# Altium schematic symbol library Custom1.SchLib: 476 symbols (part 7 of 16)
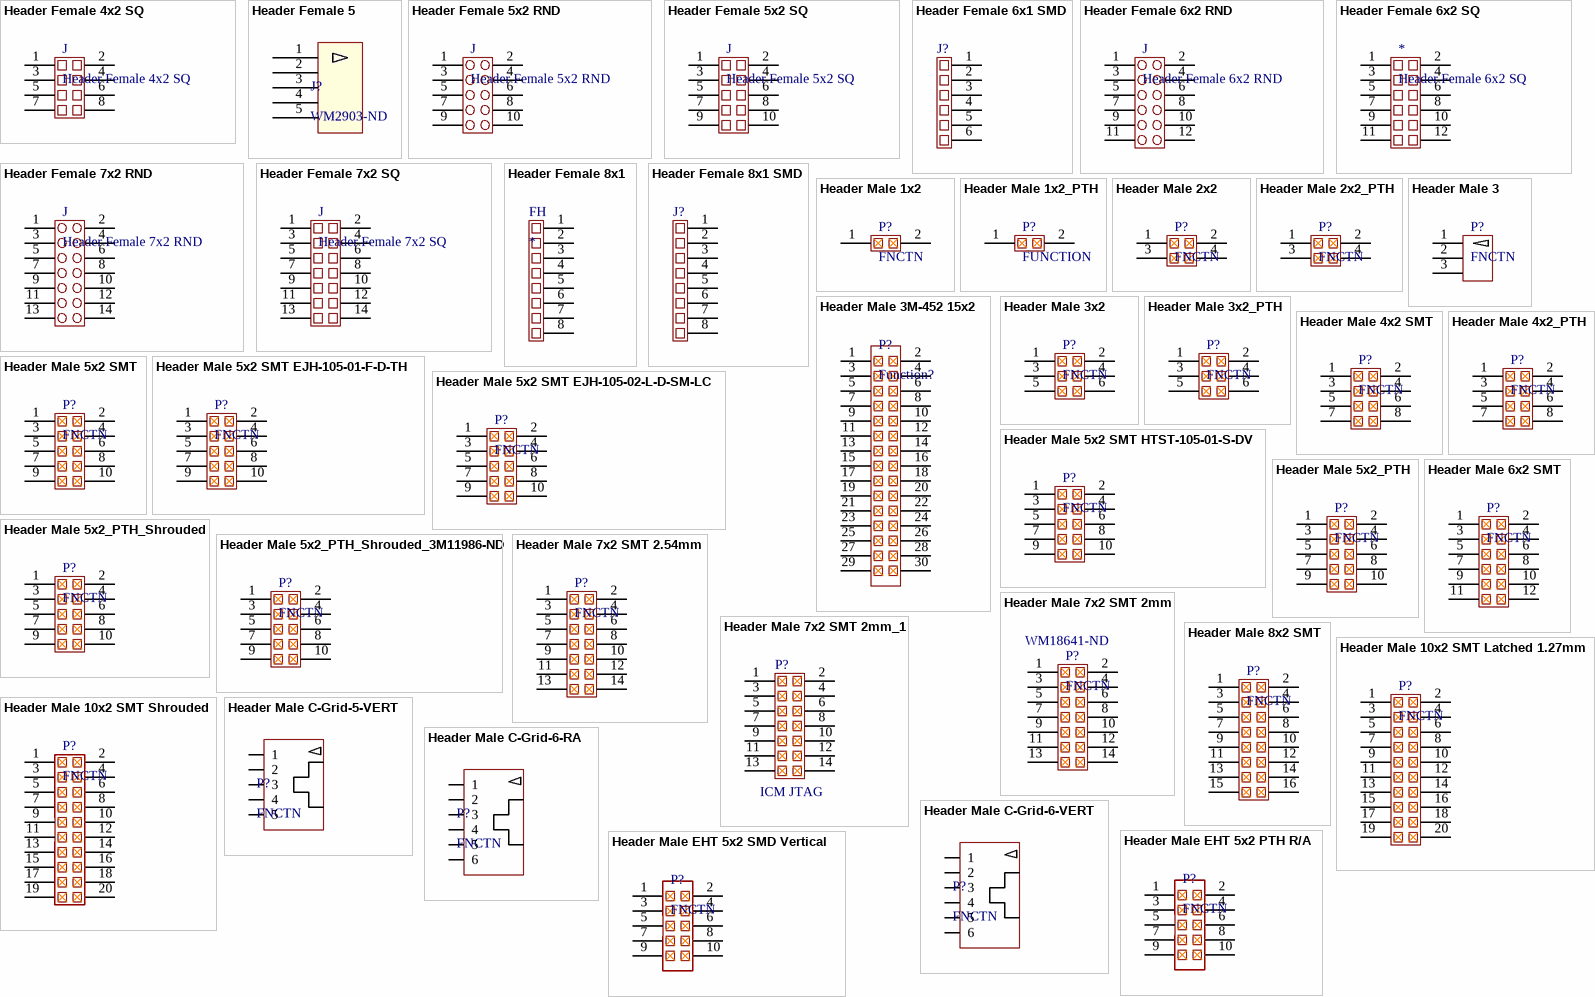
[diagram p31: symbols Header Female 4x2 SQ to Header Male EHT 5x2 SMD Vertical]

## Header Male 6x2 SMT
designator P?, comment FNCTN
Header Male 6x2 SMT; Manufacturer: FCI; Manufacturer Part Number: 95278-101A12LF; Connector Type: Header, Unshrouded; Number of Positions: 12; Number of Positions Loaded: All; Pitch: 0.100" (2.54mm); Supplier 1: Digi-Key; RoHS: RoHS Compliant; Category: Connectors, Interconnects; Stock 1: 1303; Pricing 1: 1=1.19, 10=1.048, 25=0.9864, 50=0.9454, 100=0.9044 (USD); Packaging: Cut Tape (CT); Contact Type: Male Pin; Number of Rows: 2; Row Spacing: 0.100" (2.54mm); Contact Mating Length: 0.232" (5.90mm); Mounting Type: Surface Mount; Termination: Solder; Fastening Type: -; Features: -; Contact Finish: Gold, GXT™; Contact Finish Thickness: 30µin (0.76µm); Color: Black; ComponentLink1URL: http://portal.fciconnect.com/Comergent//fci/drawing/95278.pdf; ComponentLink1Description: http://portal.fciconnect.com/Comergent//fci/drawing/95278.pdf; Supplier Part Number 1: 609-3484-1-ND
footprint Header Male 2x6 SMT
pins: 1, 2, 3, 4, 5, 6, 7, 8, 9, 10, 11, 12

## Header Male 7x2 SMT 2.54mm
designator P?, comment FNCTN
CONN HEADER SMD 14POS 2.54MM; Manufacturer: FCI; Manufacturer Part Number: 95278-101A14LF; Connector Type: Header, Unshrouded; Number of Positions: 14; Number of Positions Loaded: All; Pitch: 0.100" (2.54mm); Supplier 1: Digi-Key; RoHS: RoHS Compliant; Category: Connectors, Interconnects; Stock 1: 2118; Pricing 1: 1=1.36, 10=1.199, 25=1.128, 50=1.081, 100=1.0341 (USD); Packaging: Cut Tape (CT); Contact Type: Male Pin; Number of Rows: 2; Row Spacing: 0.100" (2.54mm); Contact Mating Length: 0.232" (5.90mm); Mounting Type: Surface Mount; Termination: Solder; Fastening Type: -; Features: -; Contact Finish: Gold, GXT™; Contact Finish Thickness: 30µin (0.76µm); Color: Black; ComponentLink1URL: http://portal.fciconnect.com/Comergent//fci/drawing/95278.pdf; ComponentLink1Description: http://portal.fciconnect.com/Comergent//fci/drawing/95278.pdf; Supplier Part Number 1: 609-3485-1-ND
footprint 95278-101A14LF
pins: 1, 2, 3, 4, 5, 6, 7, 8, 9, 10, 11, 12, 13, 14

## Header Male 7x2 SMT 2mm
designator P?, comment FNCTN  Supplier Part Number 1: WM18641-ND
CONN HEADER SMD 14POS 2MM; Manufacturer: Molex; Manufacturer Part Number: 87832-1420; Number of Positions: 14; Gender: Male; Current Rating: 2A; Insulation Resistance: 1GR; Voltage Rating: 125V; Shrouded: Yes (With); Glow Wire Compliant: Non-compliant; Supplier 1: Digi-Key; Stock 1: 55862; Pricing 1: 1 = 1.83000, 10 = 1.66000, 100 = 1.42280, 500 = 1.18562, 3200 = 0.94850, 6400 = 0.90108 (USD); RoHS: Yes; Mount: Surface Mount; Color: Black; Housing Color: Black; Housing Material: Thermoplastic; Contact Plating: Gold; Contact Material: Brass; Min Operating Temperature: -55°C; Max Operating Temperature: 105°C; Number of Rows: 2; Packaging: Rail/Tube; Termination: SMD/SMT; Number of Contacts: 14; Orientation: Vertical; Package Quantity: 3200; Number of Circuits: 14; Voltage Rating (DC): 125V; Pitch: 2mm; Radiation Hardening: No; REACH SVHC: No SVHC; Lead Free: Lead Free; Flammability Rating: UL94 V-0; ComponentLink1Description: Drawing; ComponentLink1URL: https://www.molex.com/pdm_docs/sd/878322620_sd.pdf; ComponentLink2Description: Product Specification; ComponentLink2URL: https://www.molex.com/pdm_docs/ps/PS-87831-027.pdf; ComponentLink3Description: PKG Spec; ComponentLink3URL: https://media.digikey.com/pdf/Data%20Sheets/Molex%20PDFs/87832-300_Pkg_Spec.pdf
footprint Header Male 2x7 SMT 2mm (CONN HEADER SMD 14POS 2MM)
pins: 1, 2, 3, 4, 5, 6, 7, 8, 9, 10, 11, 12, 13, 14

## Header Male 7x2 SMT 2mm_1
designator P?, comment ICM JTAG
CONN HEADER SMD 14POS 2MM; Manufacturer: FCI; Manufacturer Part Number: 95278-101A14LF; Connector Type: Header, Unshrouded; Number of Positions: 14; Number of Positions Loaded: All; Pitch: 0.100" (2.54mm); Gender: Male; RoHS: RoHS Compliant; Category: Connectors, Interconnects; Packaging: Cut Tape (CT); Contact Type: Male Pin; Number of Rows: 2; Row Spacing: 0.100" (2.54mm); Contact Mating Length: 0.232" (5.90mm); Mounting Type: Surface Mount; Termination: Solder; Fastening Type: -; Features: -; Contact Finish: Gold, GXT™; Contact Finish Thickness: 30µin (0.76µm); Color: Black; ComponentLink1URL: http://portal.fciconnect.com/Comergent//fci/drawing/95278.pdf; ComponentLink1Description: http://portal.fciconnect.com/Comergent//fci/drawing/95278.pdf; Supplier 1: Digi-Key; Stock 1: 0; Mount: Surface Mount; Housing Color: Black; Housing Material: Nylon; Contact Plating: Gold; Contact Material: Bronze; Min Operating Temperature: -55°C; Max Operating Temperature: 105°C; Number of Contacts: 14; Orientation: Straight; Length: 16.65mm; Depth: 6.3mm; ComponentLink2URL: http://www.molex.com/webdocs/datasheets/pdf/en-us/0878321420_PCB_HEADERS.pdf?src-supplier=Avnet; ComponentLink2Description: http://www.molex.com/webdocs/datasheets/pdf/en-us/0878321420_PCB_HEADERS.pdf?src-supplier=Avnet; ComponentLink3URL: https://media.digikey.com/pdf/Data%20Sheets/Molex%20PDFs/87832-300_Pkg_Spec.pdf?src-supplier=Arrow; ComponentLink3Description: https://media.digikey.com/pdf/Data%20Sheets/Molex%20PDFs/87832-300_Pkg_Spec.pdf?src-supplier=Arrow; Supplier Part Number 1: WM18641-ND
footprint Header Male 2x7 SMT
footprint Header Male 2x7 SMT 2mm (CONN HEADER SMD 14POS 2MM)
footprint 95278-101A14LF (CONN HEADER SMD 14POS 2MM)
pins: 1, 2, 3, 4, 5, 6, 7, 8, 9, 10, 11, 12, 13, 14

## Header Male 8x2 SMT
designator P?, comment FNCTN
Header Male 8x2 SMT; Manufacturer: Amphenol FCI; Manufacturer Part Number: 95278-101A16LF; Number of Contacts: 16; Current Rating: 3A; Voltage Rating: 1.5kV; Insulation Resistance: 5GR; Connector Type: Male Pin; Pitch: 2.54mm; Row Spacing: 0.1inch; Supplier 1: Digi-Key; Stock 1: 13993; Pricing 1: 1=1.37000, 10=1.20100, 100=1.03580 (USD); RoHS: Yes; Mount: Surface Mount; Contact Plating: Gold,GXT; Color: Black; Contact Material: Bronze; Housing Color: Black; Material: Thermoplastic; Housing Material: Thermoplastic; Min Operating Temperature: -65°C; Max Operating Temperature: 125°C; Number of Rows: 2; Termination: Solder; Package Quantity: 300; Packaging: Tape and Reel; Contact Gender: Male; Number of Positions: 16; Max Voltage Rating (AC): 1.5kV; Orientation: Straight; Gender: Male; Length: 20.32mm; Contact Mating Length: 0.232inch; Depth: 4.83mm; Radiation Hardening: No; REACH SVHC: No SVHC; Lead Free: Lead Free; Flammability Rating: UL94 V-0; ComponentLink1URL: https://datasheet.ciiva.com/14804/113095278-14804547.pdf?src-supplier=Arrow; ComponentLink1Description: https://datasheet.ciiva.com/14804/113095278-14804547.pdf?src-supplier=Arrow; ComponentLink2URL: https://datasheet.ciiva.com/731/95278-731185.pdf?src-supplier=Digi-Key; ComponentLink2Description: https://datasheet.ciiva.com/731/95278-731185.pdf?src-supplier=Digi-Key; ComponentLink3URL: https://datasheet.ciiva.com/738/95278-738548.pdf?src-supplier=Digi-Key; ComponentLink3Description: https://datasheet.ciiva.com/738/95278-738548.pdf?src-supplier=Digi-Key; ComponentLink4URL: https://datasheet.ciiva.com/10135/95278-10135641.pdf?src-supplier=Avnet; ComponentLink4Description: https://datasheet.ciiva.com/10135/95278-10135641.pdf?src-supplier=Avnet; ComponentLink5URL: https://datasheet.ciiva.com/46395/95278-46395817.pdf?src-supplier=Element14; ComponentLink5Description: https://datasheet.ciiva.com/46395/95278-46395817.pdf?src-supplier=Element14; ComponentLink6URL: https://datasheet.ciiva.com/16731/95278-16731066.pdf?src-supplier=Avnet+Europe; ComponentLink6Description: https://datasheet.ciiva.com/16731/95278-16731066.pdf?src-supplier=Avnet+Europe; ComponentLink7URL: https://datasheet.ciiva.com/46395/52707-46395818.pdf?src-supplier=Element14; ComponentLink7Description: https://datasheet.ciiva.com/46395/52707-46395818.pdf?src-supplier=Element14; ComponentLink8URL: https://datasheet.ciiva.com/720/95278-720175.pdf?src-supplier=Digi-Key; ComponentLink8Description: https://datasheet.ciiva.com/720/95278-720175.pdf?src-supplier=Digi-Key; Supplier Part Number 1: 609-3486-1-ND
footprint Header Male 2x8 SMT
pins: 1, 2, 3, 4, 5, 6, 7, 8, 9, 10, 11, 12, 13, 14, 15, 16

## Header Male 10x2 SMT Latched 1.27mm
designator P?, comment FNCTN
CONN HEADER SMD 20POS 1.27MM; Manufacturer: FCI; Manufacturer Part Number: 95278-101A14LF; Connector Type: Header, Unshrouded; Number of Positions: 14; Number of Positions Loaded: All; Pitch: 0.100" (2.54mm); Current Rating: 2A; Max Current Rating: 1.75A; Number of Contacts: 20; Gender: Male; RoHS: RoHS Compliant; Category: Connectors, Interconnects; Packaging: Cut Tape (CT); Contact Type: Male Pin; Number of Rows: 2; Row Spacing: 0.100" (2.54mm); Contact Mating Length: 0.232" (5.90mm); Mounting Type: Surface Mount; Termination: Solder; Fastening Type: -; Features: -; Contact Finish: Gold, GXT™; Contact Finish Thickness: 30µin (0.76µm); Color: Black; Supplier 1: Digi-Key; Stock 1: 4285; Pricing 1: 1 = 2.62000, 10 = 2.51300, 100 = 2.09440 (USD); Mount: Surface Mount; Contact Plating: Gold; Contact Material: Brass; Housing Color: Black; Housing Material: Polyester; Min Operating Temperature: -55°C; Max Operating Temperature: 105°C; Package Quantity: 200; Contact Gender: Male; Orientation: Straight; Length: 32.72mm; Depth: 8.59mm; REACH SVHC: Unknown; ComponentLink1URL: http://multimedia.3m.com/mws/media/485877O/3m-four-wall-header-d2500-series-ts-2244.pdf?src-supplier=Digi-Key; ComponentLink1Description: http://multimedia.3m.com/mws/media/485877O/3m-four-wall-header-d2500-series-ts-2244.pdf?src-supplier=Digi-Key; ComponentLink3URL: http://www.farnell.com/datasheets/1917897.pdf?src-supplier=Element14; ComponentLink3Description: http://www.farnell.com/datasheets/1917897.pdf?src-supplier=Element14; ComponentLink5URL: http://multimedia.3m.com/mws/media/555044O/3m-interconnect-products-shortform-catalog.pdf?src-supplier=Digi-Key; ComponentLink5Description: http://multimedia.3m.com/mws/media/555044O/3m-interconnect-products-shortform-catalog.pdf?src-supplier=Digi-Key; Supplier Part Number 1: MSH20ECT-ND
pins: 1, 2, 3, 4, 5, 6, 7, 8, 9, 10, 11, 12, 13, 14, 15, 16, 17, 18, 19, 20

## Header Male 10x2 SMT Shrouded
designator P?, comment FNCTN
Header Male 10x2 SMT Shrouded; Manufacturer: 3M; Manufacturer Part Number: D2520-6V0C-AR-WE; Current Rating: 2A; Max Current Rating: 1.75A; Number of Positions: 20; Connector Type: Male Pin; Pitch: 2.54mm; Row Spacing: 0.1inch; ComponentLink1URL: http://multimedia.3m.com/mws/media/485877O/3m-four-wall-header-d2500-series-ts-2244.pdf?src-supplier=Digi-Key; ComponentLink1Description: http://multimedia.3m.com/mws/media/485877O/3m-four-wall-header-d2500-series-ts-2244.pdf?src-supplier=Digi-Key; ComponentLink2URL: https://www.alliedelec.com/m/d/094cdcc0671c5146fad8da47879033d8.pdf?src-supplier=Allied+Electronics; ComponentLink2Description: https://www.alliedelec.com/m/d/094cdcc0671c5146fad8da47879033d8.pdf?src-supplier=Allied+Electronics; ComponentLink3URL: http://www.farnell.com/datasheets/1917897.pdf?src-supplier=Element14; ComponentLink3Description: http://www.farnell.com/datasheets/1917897.pdf?src-supplier=Element14; ComponentLink4URL: http://multimedia.3m.com/mws/media/485877O/3mtm-four-wall-header-ts2244.pdf?src-supplier=Avnet+Europe; ComponentLink4Description: http://multimedia.3m.com/mws/media/485877O/3mtm-four-wall-header-ts2244.pdf?src-supplier=Avnet+Europe; ComponentLink5URL: http://multimedia.3m.com/mws/media/555044O/3m-interconnect-products-shortform-catalog.pdf?src-supplier=Digi-Key; ComponentLink5Description: http://multimedia.3m.com/mws/media/555044O/3m-interconnect-products-shortform-catalog.pdf?src-supplier=Digi-Key; Supplier 1: Digi-Key; Stock 1: 9607; Pricing 1: 1 = 2.62000, 10 = 2.51300, 100 = 2.09440 (USD); RoHS: Yes; Mount: Surface Mount; Color: Black; Contact Plating: Gold; Contact Material: Brass; Housing Color: Black; Housing Material: Polyester; Min Operating Temperature: -55°C; Max Operating Temperature: 105°C; Package Quantity: 200; Number of Rows: 2; Packaging: Tape and Reel; Contact Gender: Male; Termination: Solder; Number of Contacts: 20; Orientation: Straight; Gender: Male; Length: 32.72mm; Contact Mating Length: 0.243inch; Depth: 8.59mm; REACH SVHC: Unknown; ComponentLink6URL: https://datasheet.ciiva.com/729/ts2244-729185.pdf?src-supplier=Digi-Key; ComponentLink6Description: https://datasheet.ciiva.com/729/ts2244-729185.pdf?src-supplier=Digi-Key; ComponentLink7URL: https://datasheet.ciiva.com/17055/70237664-17055513.pdf?src-supplier=Allied+Electronics; ComponentLink7Description: https://datasheet.ciiva.com/17055/70237664-17055513.pdf?src-supplier=Allied+Electronics; ComponentLink8URL: https://datasheet.ciiva.com/46408/ts2244-46408474.pdf?src-supplier=Element14; ComponentLink8Description: https://datasheet.ciiva.com/46408/ts2244-46408474.pdf?src-supplier=Element14; ComponentLink9URL: https://datasheet.ciiva.com/16730/ts2244-16730875.pdf?src-supplier=Avnet+Europe; ComponentLink9Description: https://datasheet.ciiva.com/16730/ts2244-16730875.pdf?src-supplier=Avnet+Europe; ComponentLink10URL: https://datasheet.ciiva.com/738/2009+intercon+shortform+cat-738542.pdf?src-supplier=Digi-Key; ComponentLink10Description: https://datasheet.ciiva.com/738/2009+intercon+shortform+cat-738542.pdf?src-supplier=Digi-Key; ComponentLink11URL: https://datasheet.ciiva.com/729/ts2244-729215.pdf?src-supplier=Digi-Key; ComponentLink11Description: https://datasheet.ciiva.com/729/ts2244-729215.pdf?src-supplier=Digi-Key; Supplier Part Number 1: MSH20ECT-ND
footprint Header Male 2x10 SMT 2.54mm
pins: 1, 2, 3, 4, 5, 6, 7, 8, 9, 10, 11, 12, 13, 14, 15, 16, 17, 18, 19, 20

## Header Male C-Grid-5-VERT
designator P?, comment FNCTN
CONN HEADER 6POS .100 R/A 30AU; Manufacturer: Molex; Manufacturer Part Number: 70543-0004; Number of Positions: 5; Gender: Male; Contact Resistance: 30mR; Max Current Rating: 3A; Voltage Rating: 250V; Pitch: 2.54mm; Approvals: UL,CSA; Glow Wire Compliant: Non-compliant; ComponentLink1URL: http://www.molex.com/pdm_docs/sd/705430001_sd.pdf; ComponentLink1Description: http://www.molex.com/pdm_docs/sd/705430001_sd.pdf; Supplier 1: Digi-Key; Stock 1: 4848; Pricing 1: 1=1.14000, 10=1.00000, 100=0.86280, 500=0.70596, 1000=0.62752, 5000=0.54908, 10000=0.52163 (USD); RoHS: Yes; Mount: Through Hole; Color: Black; Contact Plating: Gold; Housing Color: Black; Housing Material: Polyester; Contact Material: Bronze,Brass,Copper Alloy; Material: Brass; Min Operating Temperature: -40°C; Max Operating Temperature: 105°C; Number of Rows: 1; Packaging: Rail/Tube; Termination: Solder; Number of Contacts: 5; Orientation: Vertical; Current Rating: 3A; Package Quantity: 1680; Max Voltage Rating (AC): 250V; Number of Circuits: 5; Voltage Rating (DC): 250V; Length: 15.25mm; Height: 11.81mm; Depth: 6.6mm; Radiation Hardening: No; REACH SVHC: Unknown; ELV: Compliant; Lead Free: Lead Free; Flammability Rating: UL94 V-0; ComponentLink2URL: https://datasheet.ciiva.com/30074/163370705430004-pcb-headers-30074442.pdf?src-supplier=Onlinecomponents.com; ComponentLink2Description: https://datasheet.ciiva.com/30074/163370705430004-pcb-headers-30074442.pdf?src-supplier=Onlinecomponents.com; ComponentLink3URL: https://datasheet.ciiva.com/11746/0900766b80d8d64b-11746254.pdf?src-supplier=RSComponents; ComponentLink3Description: https://datasheet.ciiva.com/11746/0900766b80d8d64b-11746254.pdf?src-supplier=RSComponents; ComponentLink4URL: https://datasheet.ciiva.com/19462/884686-19462288.pdf?src-supplier=Jameco; ComponentLink4Description: https://datasheet.ciiva.com/19462/884686-19462288.pdf?src-supplier=Jameco; ComponentLink5URL: https://datasheet.ciiva.com/5152/0705430004-pcb-headers-172633-5152497.pdf?src-supplier=Mouser; ComponentLink5Description: https://datasheet.ciiva.com/5152/0705430004-pcb-headers-172633-5152497.pdf?src-supplier=Mouser; ComponentLink6URL: https://datasheet.ciiva.com/10087/0705430004-pcb-headers-10087572.pdf?src-supplier=Avnet; ComponentLink6Description: https://datasheet.ciiva.com/10087/0705430004-pcb-headers-10087572.pdf?src-supplier=Avnet; ComponentLink7URL: https://datasheet.ciiva.com/16657/0705430004-pcb-headers-16657768.pdf?src-supplier=Avnet+Europe; ComponentLink7Description: https://datasheet.ciiva.com/16657/0705430004-pcb-headers-16657768.pdf?src-supplier=Avnet+Europe; ComponentLink8URL: https://datasheet.ciiva.com/7683/0705430004-pcb-headers-7683819.pdf?src-supplier=Element14; ComponentLink8Description: https://datasheet.ciiva.com/7683/0705430004-pcb-headers-7683819.pdf?src-supplier=Element14; Supplier Part Number 1: WM4803-ND
footprint Header Male 6 Vert
pins: 1, 2, 3, 4, 5

## Header Male C-Grid-6-RA
designator P?, comment FNCTN
CONN HEADER 6POS .100 R/A 30AU; Manufacturer: Molex, LLC; Manufacturer Part Number: 0705530110; Connector Type: Header, Shrouded; Number of Positions: 6; Number of Positions Loaded: All; Pitch: 0.100" (2.54mm); Supplier 1: Digi-Key; RoHS: RoHS Compliant; Category: Connectors, Interconnects; Stock 1: 1091; Pricing 1: 1=2.56, 10=2.324, 50=2.087, 100=1.9921, 250=1.80236, 500=1.66006, 1000=1.4229, 2500=1.32804, 5000=1.26164 (USD); Packaging: Tube; Contact Type: Male Pin; Number of Rows: 1; Row Spacing: -; Contact Mating Length: 0.240" (6.10mm); Mounting Type: Through Hole, Right Angle; Termination: Solder; Fastening Type: -; Features: -; Contact Finish: Gold; Contact Finish Thickness: 30µin (0.76µm); Color: Black; ComponentLink1URL: http://www.molex.com/pdm_docs/sd/705530106_sd.pdf; ComponentLink1Description: http://www.molex.com/pdm_docs/sd/705530106_sd.pdf; Supplier Part Number 1: WM4157-ND
footprint Header Male-6-RA
pins: 1, 2, 3, 4, 5, 6

## Header Male C-Grid-6-VERT
designator P?, comment FNCTN
CONN HEADER 6POS .100 R/A 30AU; Manufacturer: Molex, LLC; Manufacturer Part Number: 0705430005; Connector Type: Header, Shrouded; Number of Positions: 6; Number of Positions Loaded: All; Pitch: 0.100" (2.54mm); Supplier 1: Digi-Key; RoHS: RoHS Compliant; Category: Connectors, Interconnects; Stock 1: 14077; Pricing 1: 1=1.2, 10=1.058, 50=0.9542, 100=0.9128, 250=0.8298, 500=0.74682, 1000=0.66384, 2500=0.6016, 5000=0.58086 (USD); Packaging: Tube; Contact Type: Male Pin; Number of Rows: 1; Row Spacing: -; Contact Mating Length: 0.240" (6.10mm); Mounting Type: Through Hole; Termination: Solder; Fastening Type: -; Features: -; Contact Finish: Gold; Contact Finish Thickness: 15µin (0.38µm); Color: Black; ComponentLink1URL: http://www.molex.com/pdm_docs/sd/705430001_sd.pdf; ComponentLink1Description: http://www.molex.com/pdm_docs/sd/705430001_sd.pdf; Supplier Part Number 1: WM4804-ND
footprint Header Male 6 Vert
pins: 1, 2, 3, 4, 5, 6

## Header Male EHT 5x2 PTH R/A
designator P?, comment FNCTN
CONN HEADER R/A 10POS 2MM; Manufacturer: Samtec; Manufacturer Part Number: EHT-105-01-S-D-RA; Max Current Rating: 3A; Number of Positions: 10; Gender: Male; Connector Type: Male Pin; Row Spacing: 0.079inch; ComponentLink1URL: http://suddendocs.samtec.com/catalog_english/eht.pdf; ComponentLink1Description: Catalog Page; ComponentLink2URL: http://suddendocs.samtec.com/prints/eht-1xx-01-xx-d-xx-xx-x-xx-xx-mkt.pdf; ComponentLink2Description: Drawing; ComponentLink3URL: https://wwws.samtec.com/build-a-part/BuildPart.aspx?series=EHT&viewmodel=true; ComponentLink3Description: 3D Model Creator; ComponentLink7Description: Supplier Link; ComponentLink7URL: https://www.digikey.com/products/en?keywords=SAM8555-ND; Supplier 1: Digi-Key; Stock 1: 920; Pricing 1: 1 = 7.85000, 23 = 7.52087, 115 = 6.21304, 506 = 5.23200, 1012 = 4.57800 (USD); RoHS: Yes; Mount: Through Hole; Contact Plating: Gold; Contact Material: Bronze; Color: Black; Housing Color: Black; Housing Material: Polymer; Min Operating Temperature: -55°C; Max Operating Temperature: 125°C; Number of Rows: 2; Packaging: Rail/Tube; Current Rating: 3A; Fastening Type: Latch; Termination: Solder; Number of Contacts: 10; Orientation: Right Angle; Length: 23.79mm; Pitch: 2mm; Contact Mating Length: 0.12inch; Depth: 15.71mm; Radiation Hardening: No; REACH SVHC: No SVHC; Lead Free: Lead Free; ComponentLink5URL: https://datasheet.ciiva.com/25618/0900766b81151d40-25618321.pdf?src-supplier=RSComponents; ComponentLink5Description: Footprint info; Supplier Part Number 1: SAM8555-ND
footprint Header Male 2x5 EHT PTH R/A
pins: 1, 2, 3, 4, 5, 6, 7, 8, 9, 10

## Header Male EHT 5x2 SMD Vertical
designator P?, comment FNCTN
CONN HEADER SMD 10POS 2MM; Manufacturer: Samtec; Manufacturer Part Number: EHT-105-01-S-D-SM; Number of Positions: 10; Gender: Male; Connector Type: Male Pin; Row Spacing: 0.079inch; ComponentLink1URL: http://suddendocs.samtec.com/catalog_english/eht.pdf; ComponentLink1Description: Catalog Page; ComponentLink2URL: http://suddendocs.samtec.com/prints/eht-1xx-01-xx-d-xx-xx-x-xx-xx-mkt.pdf; ComponentLink2Description: Drawing; ComponentLink3URL: https://wwws.samtec.com/build-a-part/BuildPart.aspx?series=EHT&viewmodel=true; ComponentLink3Description: 3D Model Creator; ComponentLink4URL: http://suddendocs.samtec.com/prints/ehtd-sm.pdf; ComponentLink4Description: Footprint; Supplier 1: Digi-Key; Stock 1: 1945; Pricing 1: 1 = 8.88000, 23 = 8.49217, 115 = 7.14104, 506 = 5.98300, 1012 = 5.28820 (USD); RoHS: Yes; Mount: Surface Mount; Contact Plating: Gold; Contact Material: Bronze; Color: Black; Housing Color: Black; Housing Material: Polymer; Min Operating Temperature: -55°C; Max Operating Temperature: 125°C; Number of Rows: 2; Packaging: Tray; Package Quantity: 1; Fastening Type: Latch; Termination: Solder; Number of Contacts: 10; Orientation: Straight; Length: 23.79mm; Pitch: 2mm; Depth: 8.89mm; Radiation Hardening: No; REACH SVHC: No SVHC; ComponentLink6URL: https://datasheet.ciiva.com/740/eht-1xx-01-xx-d-xx-xx-x-xx-xx-mkt-740669.pdf?src-supplier=Digi-Key; ComponentLink6Description: https://datasheet.ciiva.com/740/eht-1xx-01-xx-d-xx-xx-x-xx-xx-mkt-740669.pdf?src-supplier=Digi-Key; Supplier Part Number 1: SAM10439-ND; ComponentLink7Description: Supplier Link; ComponentLink7URL: https://www.digikey.com/products/en?keywords=SAM10439-ND
footprint EHT5x2
pins: 1, 2, 3, 4, 5, 6, 7, 8, 9, 10

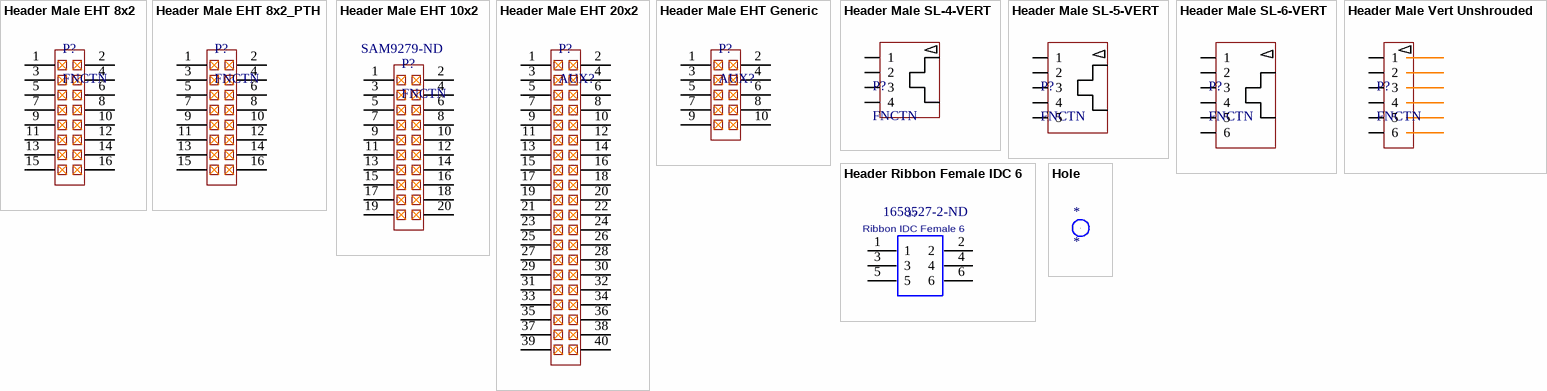
[diagram p15: symbols Header Male EHT 8x2 to Hole]

## Header Male EHT 8x2
designator P?, comment FNCTN
Header Male EHT 8x2; Manufacturer: Samtec Inc.; Manufacturer Part Number: EHT-108-01-S-D-SM; Connector Type: Header, Shrouded; Number of Positions: 16; Number of Positions Loaded: All; Pitch: 0.079" (2.00mm); Supplier 1: Digi-Key; RoHS: RoHS Compliant; Category: Connectors, Interconnects; Stock 1: 0; Pricing 1: 1=8.46 (USD); Packaging: Tube; Contact Type: Male Pin; Number of Rows: 2; Row Spacing: 0.079" (2.00mm); Contact Mating Length: 0.120" (3.05mm); Mounting Type: Surface Mount; Termination: Solder; Fastening Type: Latch Lock/Eject Hooks; Features: -; Contact Finish: Gold; Contact Finish Thickness: 30µin (0.76µm); Color: Black; ComponentLink1URL: http://suddendocs.samtec.com/prints/eht-1xx-01-xx-d-xx-xx-x-xx-xx-mkt.pdf; ComponentLink1Description: http://suddendocs.samtec.com/prints/eht-1xx-01-xx-d-xx-xx-x-xx-xx-mkt.pdf; Supplier Part Number 1: EHT-108-01-S-D-SM-ND
footprint EHT8x2
pins: 1, 2, 3, 4, 5, 6, 7, 8, 9, 10, 11, 12, 13, 14, 15, 16

## Header Male EHT 8x2_PTH
designator P?, comment FNCTN
Header Male EHT 8x2 PTH; Manufacturer: Samtec Inc.; Manufacturer Part Number: EHT-108-01-S-D; Connector Type: Header, Shrouded; Number of Positions: 16; Number of Positions Loaded: All; Pitch: 0.079" (2.00mm); Supplier 1: Digi-Key; RoHS: RoHS Compliant; Category: Connectors, Interconnects; Stock 1: 0; Pricing 1: 1=7.48 (USD); Packaging: Tube; Contact Type: Male Pin; Number of Rows: 2; Row Spacing: 0.079" (2.00mm); Contact Mating Length: 0.120" (3.05mm); Mounting Type: Through Hole; Termination: Solder; Fastening Type: Latch Lock/Eject Hooks; Features: -; Contact Finish: Gold; Contact Finish Thickness: 30µin (0.76µm); Color: Black; ComponentLink1URL: http://suddendocs.samtec.com/prints/eht-1xx-01-xx-d-xx-xx-x-xx-xx-mkt.pdf; ComponentLink1Description: http://suddendocs.samtec.com/prints/eht-1xx-01-xx-d-xx-xx-x-xx-xx-mkt.pdf; Supplier Part Number 1: EHT-108-01-S-D-ND
footprint EHT8x2 - PTH
pins: 1, 2, 3, 4, 5, 6, 7, 8, 9, 10, 11, 12, 13, 14, 15, 16

## Header Male EHT 10x2
designator P?, comment FNCTN  Supplier Part Number 1: SAM9279-ND
Header Male EHT 10x2; Manufacturer: Samtec Inc.; Manufacturer Part Number: EHT-110-01-S-D-SM-LC; Connector Type: Header, Shrouded; Number of Positions: 20; Number of Positions Loaded: All; Pitch: 0.079" (2.00mm); RoHS: RoHS Compliant; Category: Connectors, Interconnects; Packaging: Tray; Contact Type: Male Pin; Number of Rows: 2; Row Spacing: 0.079" (2.00mm); Contact Mating Length: -; Mounting Type: Surface Mount; Termination: Solder; Fastening Type: Latch Lock/Eject Hooks; Features: -; Contact Finish: Gold; Contact Finish Thickness: 30µin (0.76µm); Color: Black; ComponentLink1URL: http://suddendocs.samtec.com/prints/eht-1xx-01-xx-d-xx-xx-x-xx-xx-mkt.pdf; ComponentLink1Description: http://suddendocs.samtec.com/prints/eht-1xx-01-xx-d-xx-xx-x-xx-xx-mkt.pdf; Supplier 1: Digi-Key; Stock 1: 42; Pricing 1: 1 = 10.28000, 16 = 9.83375, 112 = 8.26946, 512 = 6.92850, 1008 = 6.12390 (USD); Contact Plating: Gold; Contact Material: Bronze; Housing Color: Black; Housing Material: Polymer; Min Operating Temperature: -55°C; Max Operating Temperature: 125°C; Number of Contacts: 20; Orientation: Straight; Gender: Male; Length: 33.79mm; Depth: 8.89mm; Radiation Hardening: No; REACH SVHC: No SVHC; ComponentLink2Description: Supplier Link; ComponentLink2URL: https://www.digikey.com/products/en?keywords=SAM9279-ND; ComponentLink3Description: Datasheet; ComponentLink3URL: http://suddendocs.samtec.com/catalog_english/eht.pdf; ComponentLink4Description: Drawing; ComponentLink4URL: http://suddendocs.samtec.com/prints/eht-1xx-01-xx-d-xx-xx-x-xx-xx-mkt.pdf
footprint EHT 10X2
pins: 1, 2, 3, 4, 5, 6, 7, 8, 9, 10, 11, 12, 13, 14, 15, 16, 17, 18, 19, 20

## Header Male EHT 20x2
designator P?, comment AUX?
Header Male EHT 20x2; Manufacturer: Samtec Inc.; Manufacturer Part Number: EHT-120-01-S-D-SM; Connector Type: Header, Shrouded; Number of Positions: 40; Number of Positions Loaded: All; Pitch: 0.079" (2.00mm); Supplier 1: Digi-Key; RoHS: RoHS Compliant; Category: Connectors, Interconnects; Stock 1: 0; Pricing 1: 1=12.18 (USD); Packaging: Tube; Contact Type: Male Pin; Number of Rows: 2; Row Spacing: 0.079" (2.00mm); Contact Mating Length: 0.120" (3.05mm); Mounting Type: Surface Mount; Termination: Solder; Fastening Type: Latch Lock/Eject Hooks; Features: -; Contact Finish: Gold; Contact Finish Thickness: 30µin (0.76µm); Color: Black; ComponentLink1URL: http://suddendocs.samtec.com/prints/eht-1xx-01-xx-d-xx-xx-x-xx-xx-mkt.pdf; ComponentLink1Description: http://suddendocs.samtec.com/prints/eht-1xx-01-xx-d-xx-xx-x-xx-xx-mkt.pdf; Supplier Part Number 1: EHT-120-01-S-D-SM-ND
pins: 1, 2, 3, 4, 5, 6, 7, 8, 9, 10, 11, 12, 13, 14, 15, 16, 17, 18, 19, 20, 21, 22, 23, 24, 25, 26, 27, 28, 29, 30, 31, 32, 33, 34, 35, 36, 37, 38, 39, 40

## Header Male EHT Generic
designator P?, comment AUX?
Header Male EHT Links; ComponentLink1URL: http://www.farnell.com/cad/559883.pdf; ComponentLink1Description: http://www.farnell.com/cad/559883.pdf; ComponentLink2URL: http://www.farnell.com/datasheets/1801434.pdf; ComponentLink2Description: http://www.farnell.com/datasheets/1801434.pdf; ComponentLink3URL: http://suddendocs.samtec.com/prints/eht-1xx-01-xx-d-xx-xx-x-xx-xx-mkt.pdf; ComponentLink3Description: http://suddendocs.samtec.com/prints/eht-1xx-01-xx-d-xx-xx-x-xx-xx-mkt.pdf; ComponentLink4URL: http://suddendocs.samtec.com/prints/ehtd-sm.pdf; ComponentLink4Description: Footprint
pins: 1, 2, 3, 4, 5, 6, 7, 8, 9, 10

## Header Male SL-4-VERT
designator P?, comment FNCTN
CONN HEADER 4POS .100 VERT 30AU; Manufacturer: Molex; Manufacturer Part Number: 70543-0108; Number of Positions: 4; Contact Resistance: 30mR; Gender: Male; Voltage Rating: 250V; Current Rating: 3A; Pitch: 2.54mm; Glow Wire Compliant: Non-compliant; ComponentLink1Description: Supplier Link; ComponentLink1URL: https://www.digikey.com/products/en?keywords=WM4124-ND; ComponentLink2Description: MFG Drawing; ComponentLink2URL: https://www.molex.com/pdm_docs/sd/705430106_sd.pdf; Supplier 1: Digi-Key; Stock 1: 3764; Pricing 1: 1=1.40000, 10=1.23100, 100=1.06220, 500=0.86904, 2016=0.72420, 6048=0.67592, 10080=0.64212 (USD); RoHS: Yes; Mount: Through Hole; Housing Material: Thermoplastic; Contact Material: Bronze; Contact Plating: Gold; Color: Black; Material: Brass; Min Operating Temperature: -40°C; Max Operating Temperature: 105°C; Number of Rows: 1; Packaging: Rail/Tube; Termination: Through Hole; Orientation: Vertical; Number of Contacts: 4; Package Quantity: 2016; Number of Circuits: 4; Contact Gender: Male; Voltage Rating (DC): 250V; Radiation Hardening: No; REACH SVHC: Unknown; Flammability Rating: UL94 V-0; ELV: Compliant; ComponentLink4URL: https://datasheet.ciiva.com/5158/0705430108-pcb-headers-172764-5158869.pdf?src-supplier=Mouser; ComponentLink4Description: https://datasheet.ciiva.com/5158/0705430108-pcb-headers-172764-5158869.pdf?src-supplier=Mouser; Supplier Part Number 1: WM4124-ND
footprint Header Male 4 Vert
pins: 1, 2, 3, 4

## Header Male SL-5-VERT
designator P?, comment FNCTN
CONN HEADER 5POS .100 VERT 30AU; Manufacturer: Molex; Manufacturer Part Number: 70543-0109; Number of Positions: 5; Current Rating: 3A; Voltage Rating: 250V; Contact Resistance: 30mR; Gender: Male; Pitch: 2.54mm; Glow Wire Compliant: Non-compliant; Category: Connectors, Interconnects; Supplier 1: Digi-Key; Stock 1: 2124; Pricing 1: 1=2.24000, 10=2.03400, 100=1.74300, 500=1.45250, 1680=1.20350, 5040=1.10390 (USD); RoHS: Yes; Mount: Through Hole; Housing Material: Thermoplastic; Contact Plating: Gold; Contact Material: Bronze; Color: Black; Material: Brass; Min Operating Temperature: -40°C; Max Operating Temperature: 105°C; Number of Rows: 1; Packaging: Rail/Tube; Termination: Through Hole; Number of Contacts: 5; Orientation: Vertical; Package Quantity: 1680; Number of Circuits: 5; Voltage Rating (DC): 250V; Flammability Rating: UL94 V-0; REACH SVHC: Unknown; ELV: Compliant; ComponentLink1Description: Supplier Link; ComponentLink1URL: https://www.digikey.com/products/en?keywords=WM4125-ND; ComponentLink2Description: MFG Drawing; ComponentLink2URL: https://www.molex.com/pdm_docs/sd/705430106_sd.pdf; Supplier Part Number 1: WM4125-ND
footprint Header Male 5 Vert
pins: 1, 2, 3, 4, 5

## Header Male SL-6-VERT
designator P?, comment FNCTN
CONN HEADER 6POS .100 VERT 30AU; Manufacturer: Molex; Manufacturer Part Number: 0705430110; Number of Positions: 6; Contact Resistance: 30mR; Connector Type: Male Pin; Pitch: 2.54mm; Supplier 1: Digi-Key; Stock 1: 1397; Pricing 1: 1=1.87000, 10=1.69400, 100=1.45240, 500=1.21030, 1440=1.03740, 5760=0.91983, 10080=0.89908 (USD); RoHS: Yes; Mount: Through Hole; Contact Plating: Gold; Contact Material: Bronze; Housing Material: Polyester; Color: Black; Housing Color: Black; Min Operating Temperature: -40°C; Max Operating Temperature: 105°C; Number of Rows: 1; Packaging: Rail/Tube; Termination: Solder; Number of Contacts: 6; Orientation: Straight; Length: 17.79mm; Depth: 6.6mm; Contact Mating Length: 0.24inch; ComponentLink1URL: https://datasheet.ciiva.com/3933/189370705430110-pcb-headers-3933231.pdf?src-supplier=Arrow; ComponentLink1Description: https://datasheet.ciiva.com/3933/189370705430110-pcb-headers-3933231.pdf?src-supplier=Arrow; ComponentLink2URL: https://datasheet.ciiva.com/6831/705430106-sd-6831991.pdf?src-supplier=Digi-Key; ComponentLink2Description: https://datasheet.ciiva.com/6831/705430106-sd-6831991.pdf?src-supplier=Digi-Key; Supplier Part Number 1: WM4126-ND
footprint Header Male 6 Vert
pins: 1, 2, 3, 4, 5, 6

## Header Male Vert Unshrouded
designator P?, comment FNCTN
CONN HEADER 6POS .100 VERT Unshrouded; Manufacturer: Amphenol FCI; Manufacturer Part Number: 68001-106HLF; Connector Type: Header, Unshrouded; Number of Positions: 6; Number of Positions Loaded: All; Pitch: 0.100" (2.54mm); Supplier 1: Digi-Key; RoHS: RoHS Compliant; Category: Connectors, Interconnects; Stock 1: 12125; Pricing 1: 1=0.34, 10=0.319, 25=0.2736, 100=0.2234, 250=0.20064, 500=0.19152, 1000=0.1596, 2500=0.14592, 5000=0.1368 (USD); Packaging: Bulk; Part Status: Active; Contact Type: Male Pin; Number of Rows: 1; Row Spacing: -; Contact Mating Length: 0.230" (5.84mm); Mounting Type: Through Hole; Termination: Solder; Fastening Type: -; Features: -; Contact Finish: Gold or Gold, GXT™; Contact Finish Thickness: 30µin (0.76µm); Color: Black; ComponentLink1URL: http://portal.fciconnect.com/Comergent//fci/drawing/68000.pdf; ComponentLink1Description: http://portal.fciconnect.com/Comergent//fci/drawing/68000.pdf; Supplier Part Number 1: 609-3272-ND
footprint Header Male 6 Vert
pins: 1, 2, 3, 4, 5, 6

## Header Ribbon Female IDC 6
designator J?, comment Ribbon IDC Female 6  Supplier Part Number 1: 1658527-2-ND
CONN RCPT 6POS .100 W/STR RELIEF; Manufacturer: TE Connectivity; Manufacturer Part Number: 1658527-2; Connector Type: Receptacle; Number of Positions: 6; Current Rating: 1A; Voltage Rating: 500V; Pitch: 2.54mm; Row Spacing: 0.1inch; Wire Gauge (Max): 28AWG; Wire Gauge (Min): 26AWG; Wire/Cable Gauge: -28AWG; Supplier 1: Digi-Key; Stock 1: 1061; Pricing 1: 1=4.23, 10=4.061, 25=3.7224, 50=3.5532, 100=3.384, 250=2.961, 500=2.8764, 1000=2.4534, 2500=2.444 (USD); Mount: Cable; Case/Package: 100; Contact Plating: Gold; Contact Material: Copper; Colour: Blue; Housing Colour: Blue; Housing Material: Thermoplastic; Min Operating Temperature: -55°C; Max Operating Temperature: 125°C; Number of Rows: 2; Package Quantity: 50; Packaging: Bulk; Termination: IDT; Number of Contacts: 6; Orientation: Right Angle; Contact Gender: Female; Gender: Female; Wire/Cable Type: Ribbon; Length: 12.12mm; Depth: 7.05mm; Radiation Hardening: No; ELV: Compliant; ComponentLink1URL: https://datasheet.ciiva.com/701/eng-cd-1658527-d1-701257.pdf; ComponentLink1Description: https://datasheet.ciiva.com/701/eng-cd-1658527-d1-701257.pdf; ComponentLink2URL: https://datasheet.ciiva.com/16684/eng-cs-82012-ribbon-cable-interconnect-sol-1009-16684410.pdf; ComponentLink2Description: https://datasheet.ciiva.com/16684/eng-cs-82012-ribbon-cable-interconnect-sol-1009-16684410.pdf; ComponentLink3URL: https://datasheet.ciiva.com/9522/eng-cs-82012-ribbon-cable-interconnect-sol-1009-9522188.pdf; ComponentLink3Description: https://datasheet.ciiva.com/9522/eng-cs-82012-ribbon-cable-interconnect-sol-1009-9522188.pdf
footprint TSM-103-XX-XXX-DV
pins: 1, 2, 3, 4, 5, 6

## Hole
designator *
footprint Hole 0.1 in dia
pins: 0

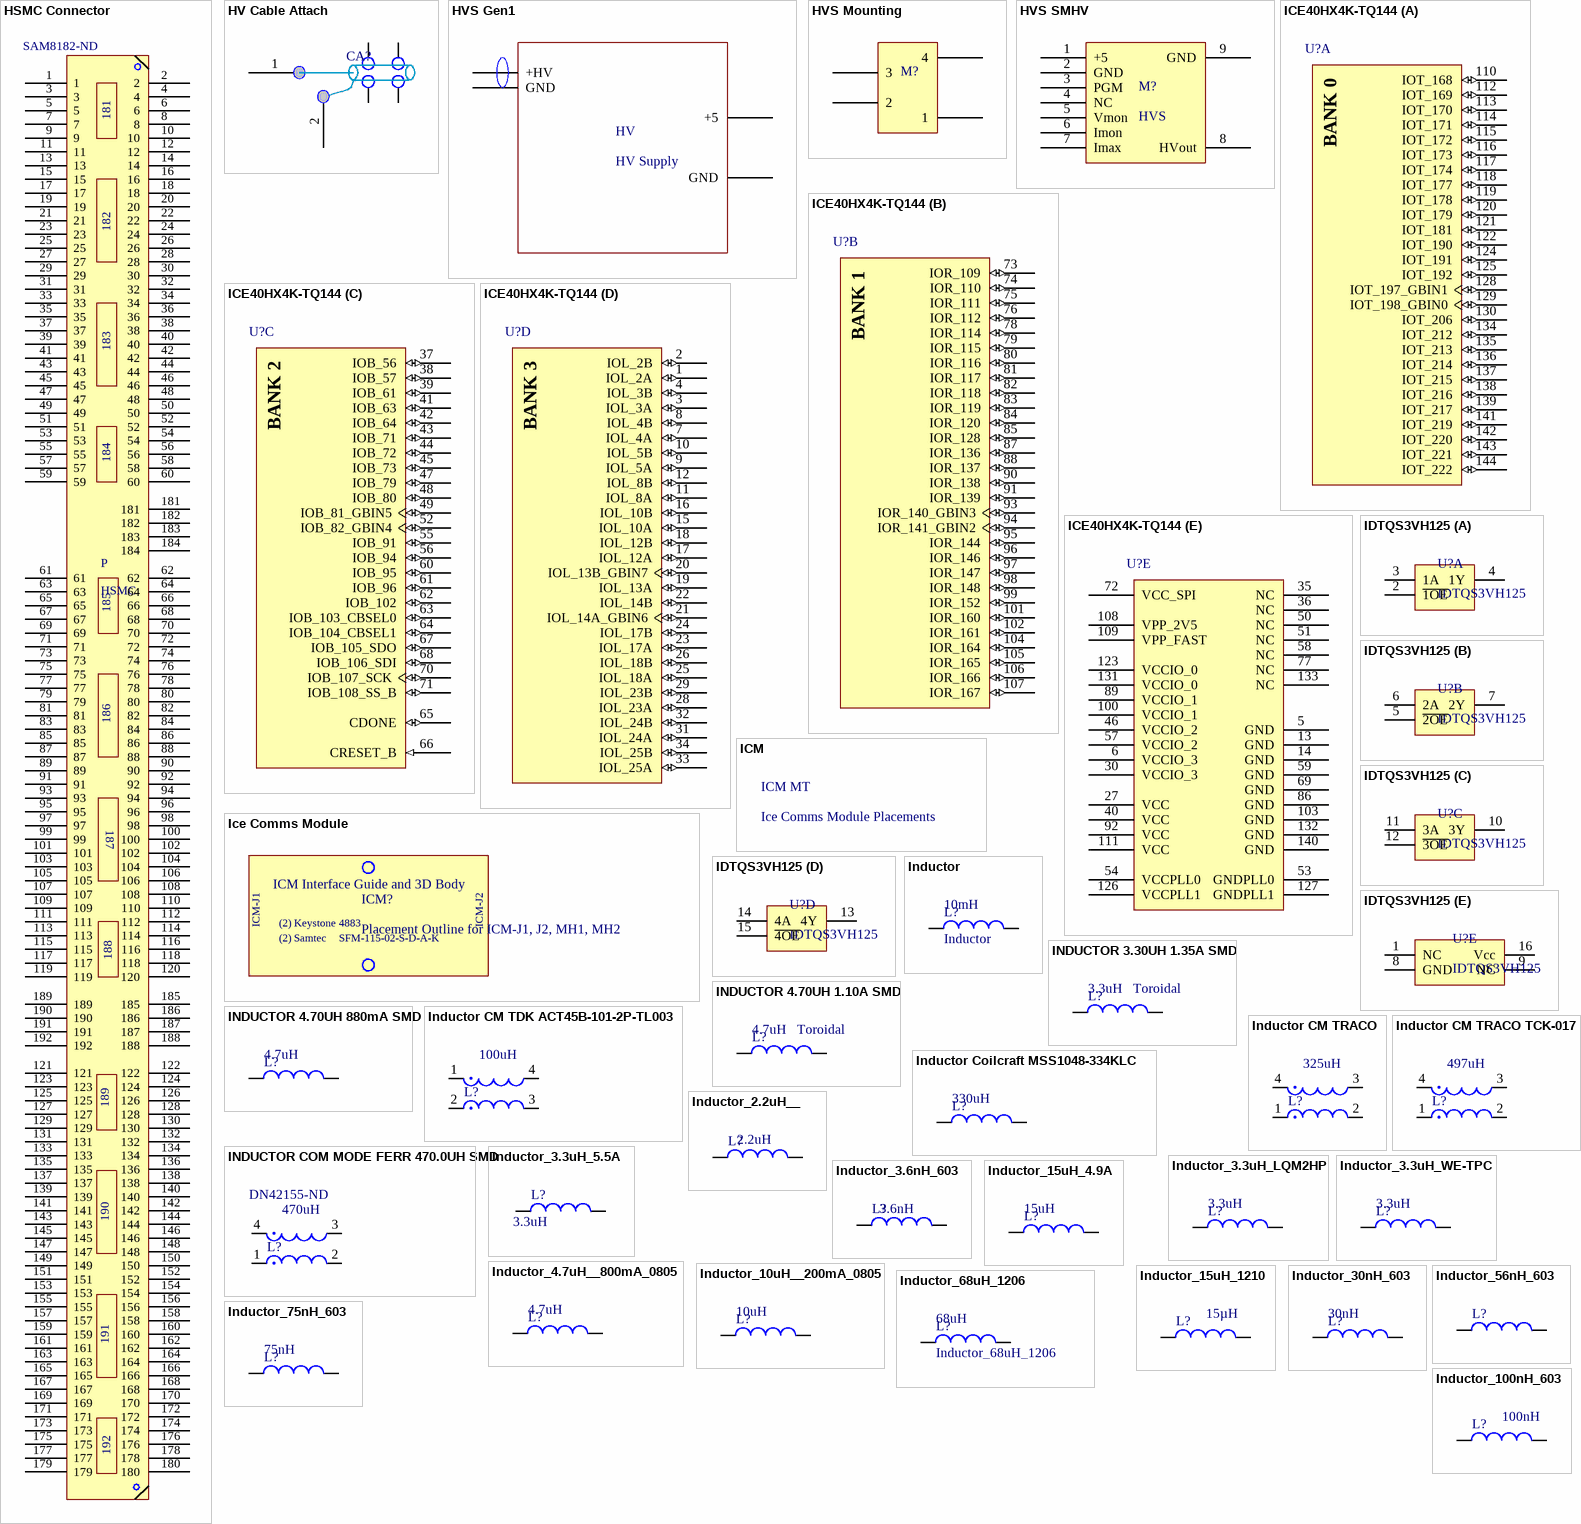
[diagram p16: symbols HSMC Connector to Inductor_100nH_603]

## HSMC Connector
designator P, comment HSMC  Supplier Part Number 1: SAM8182-ND
Supplier 1: Digi-Key
footprint QSH-090-01-X-D-A (0.50mm pitch, 180 pin, high speed terminal strip)
pins: 1, 2, 3, 4, 5, 6, 7, 8, 9, 10, 11, 12, 13, 14, 15, 16, 17, 18, 19, 20, 21, 22, 23, 24, 25, 26, 27, 28, 29, 30, 31, 32, 33, 34, 35, 36, 37, 38, 39, 40, 41, 42, 43, 44, 45, 46, 47, 48, 49, 50, 51, 52, 53, 54, 55, 56, 57, 58, 59, 60, 61, 62, 63, 64, 65, 66, 67, 68, 69, 70, 71, 72, 73, 74, 75, 76, 77, 78, 79, 80, 81, 82, 83, 84, 85, 86, 87, 88, 89, 90, 91, 92, 93, 94, 95, 96, 97, 98, 99, 100, 101, 102, 103, 104, 105, 106, 107, 108, 109, 110, 111, 112, 113, 114, 115, 116, 117, 118, 119, 120, 121, 122, 123, 124, 125, 126, 127, 128, 129, 130, 131, 132, 133, 134, 135, 136, 137, 138, 139, 140, 141, 142, 143, 144, 145, 146, 147, 148, 149, 150, 151, 152, 153, 154, 155, 156, 157, 158, 159, 160, 161, 162, 163, 164, 165, 166, 167, 168, 169, 170, 171, 172, 173, 174, 175, 176, 177, 178, 179, 180, 181, 182, 183, 184, 185, 186, 187, 188, 189, 190, 191, 192

## HV Cable Attach
designator CA?  (value not drawn)
footprint HV Cable Attach
pins: 1, 2, 3, 4, 5, 6 4

## HVS Gen1
designator HV, comment HV Supply
HV Supply Gen1; ComponentLink1Description: HV Gen1 Schematic; ComponentLink1URL: http://icecube.wisc.edu/~kitamura/hvdocs/Schematic/HVCtrl/9400-0027-SCH.050505.pdf
pins: ?1 GND, ?2 +5, ?3 +HV, ?4 GND

## HVS Mounting
designator M?, comment HVS  (value not drawn)
footprint High Voltage Module Pattern
pins: 1, 2, 3, 4

## HVS SMHV
designator M?, comment HVS
High Voltage Module; ComponentLink1URL: http://www.hvmtech.com/products_smhv.php; ComponentLink1Description: Datasheet for SMHV Module; MFG Part Number: SMHV-0520
footprint HVS SMHV (Programmable Regulated HV Supply Module)
footprint Model Name (Footprint not found)
pins: 1 +5, 2 GND, 3 PGM, 4 NC, 5 Vmon, 6 Imon, 7 Imax, 8 HVout, 9 GND

## ICE40HX4K-TQ144
designator U?
iCE40 HX4K Series FPGA Family, 3520 Logic Cells, 1.2 V Core, 80 K Embedded RAM Bits, 144-pin TQFP, Pb-Free, Tray; Manufacturer: Lattice Semiconductor; PartNumber: ICE40HX4K-TQ144; Embedded RAM Bits: 80K; Logic Cells: 3520; Phase-Locked Loops: 2; Supply Voltage: 1.2V; DatasheetVersion: Rev. 02.9; PackageVersion: Rev. 03.9, 02/2013; PackageReference: TQFP-144; PackageDescription: 144-Pin Thin Quad Flat Package, Body 20 x 20 mm, Pitch 0.5 mm; Supplier 1: Digi-Key; Supplier Part Number 1: 220-1572-ND; Supplier 2: Mouser; Supplier Part Number 2: 842-ICE40HX4K-TQ144; Packing: Tray; RoHS: TRUE; Mounting Technology: Surface Mount; ComponentLink1Description: Manufacturer URL; ComponentLink1URL: http://www.latticesemi.com/en; ComponentLink2Description: Datasheet; ComponentLink2URL: http://www.latticesemi.com/~/media/Documents/DataSheets/iCE/iCE40LPHXFamilyDataSheet.pdf; ComponentLink3Description: Package Specification; ComponentLink3URL: http://www.latticesemi.com/lit/docs/package/pkg.pdf
footprint LATC-TQFP-144_N (QFP, 144-Leads, Body 20x20mm, Pitch 0.5mm, IPC Medium Density)
footprint LATC-TQFP-144_L (QFP, 144-Leads, Body 20x20mm, Pitch 0.5mm, IPC High Density)
footprint LATC-TQFP-144_M (QFP, 144-Leads, Body 20x20mm, Pitch 0.5mm, IPC Low Density)
part A pins: 110 IOT_168 (io), 112 IOT_169 (io), 113 IOT_170 (io), 114 IOT_171 (io), 115 IOT_172 (io), 116 IOT_173 (io), 117 IOT_174 (io), 118 IOT_177 (io), 119 IOT_178 (io), 120 IOT_179 (io), 121 IOT_181 (io), 122 IOT_190 (io), 124 IOT_191 (io), 125 IOT_192 (io), 128 IOT_197_GBIN1 (io), 129 IOT_198_GBIN0 (io), 130 IOT_206 (io), 134 IOT_212 (io), 135 IOT_213 (io), 136 IOT_214 (io), 137 IOT_215 (io), 138 IOT_216 (io), 139 IOT_217 (io), 141 IOT_219 (io), 142 IOT_220 (io), 143 IOT_221 (io), 144 IOT_222 (io)
part B pins: 73 IOR_109 (io), 74 IOR_110 (io), 75 IOR_111 (io), 76 IOR_112 (io), 78 IOR_114 (io), 79 IOR_115 (io), 80 IOR_116 (io), 81 IOR_117 (io), 82 IOR_118 (io), 83 IOR_119 (io), 84 IOR_120 (io), 85 IOR_128 (io), 87 IOR_136 (io), 88 IOR_137 (io), 90 IOR_138 (io), 91 IOR_139 (io), 93 IOR_140_GBIN3 (io), 94 IOR_141_GBIN2 (io), 95 IOR_144 (io), 96 IOR_146 (io), 97 IOR_147 (io), 98 IOR_148 (io), 99 IOR_152 (io), 101 IOR_160 (io), 102 IOR_161 (io), 104 IOR_164 (io), 105 IOR_165 (io), 106 IOR_166 (io), 107 IOR_167 (io)
part C pins: 37 IOB_56 (io), 38 IOB_57 (io), 39 IOB_61 (io), 41 IOB_63 (io), 42 IOB_64 (io), 43 IOB_71 (io), 44 IOB_72 (io), 45 IOB_73 (io), 47 IOB_79 (io), 48 IOB_80 (io), 49 IOB_81_GBIN5 (io), 52 IOB_82_GBIN4 (io), 55 IOB_91 (io), 56 IOB_94 (io), 60 IOB_95 (io), 61 IOB_96 (io), 62 IOB_102 (io), 63 IOB_103_CBSEL0 (io), 64 IOB_104_CBSEL1 (io), 65 CDONE (io) "Configuration Done. Includes a permanent weak pull-up resistor to VCCIO_2. If driving external devices with CDONE output, an external pull-up resistor to VCCIO_2 may be required. Refer to the TN1248, iCE40 Programming and (See Datasheet)", 66 CRESET_B (in) "Configuration Reset, active Low. Dedicated input. No internal pull-up resistor. Either actively drive externally or connect a 10 KOhm pull-up resistor to VCCIO_2.", 67 IOB_105_SDO (io), 68 IOB_106_SDI (io), 70 IOB_107_SCK (io), 71 IOB_108_SS_B (io)
part D pins: 1 IOL_2A (io), 2 IOL_2B (io), 3 IOL_3A (io), 4 IOL_3B (io), 7 IOL_4A (io), 8 IOL_4B (io), 9 IOL_5A (io), 10 IOL_5B (io), 11 IOL_8A (io), 12 IOL_8B (io), 15 IOL_10A (io), 16 IOL_10B (io), 17 IOL_12A (io), 18 IOL_12B (io), 19 IOL_13A (io), 20 IOL_13B_GBIN7 (io), 21 IOL_14A_GBIN6 (io), 22 IOL_14B (io), 23 IOL_17A (io), 24 IOL_17B (io), 25 IOL_18A (io), 26 IOL_18B (io), 28 IOL_23A (io), 29 IOL_23B (io), 31 IOL_24A (io), 32 IOL_24B (io), 33 IOL_25A (io), 34 IOL_25B (io)
part E pins: 5 GND (power) "GND - Ground. Dedicated pins. It is recommended that all GNDs are tied together.", 6 VCCIO_3 (power) "VCCIO - The power supply pins for I/O Bank 3. Dedicated pins. All VCCIOs located in the same bank are tied to the same supply.", 13 GND (power) "GND - Ground. Dedicated pins. It is recommended that all GNDs are tied together.", 14 GND (power) "GND - Ground. Dedicated pins. It is recommended that all GNDs are tied together.", 27 VCC (power) "VCC - The power supply pins for core logic. Dedicated pins. It is recommended that all VCCs are tied to the same supply.", 30 VCCIO_3 (power) "VCCIO - The power supply pins for I/O Bank 3. Dedicated pins. All VCCIOs located in the same bank are tied to the same supply.", 35 NC "No connect", 36 NC "No connect", 40 VCC (power) "VCC - The power supply pins for core logic. Dedicated pins. It is recommended that all VCCs are tied to the same supply.", 46 VCCIO_2 (power) "VCCIO - The power supply pins for I/O Bank 2. Dedicated pins. All VCCIOs located in the same bank are tied to the same supply.", 50 NC "No connect", 51 NC "No connect", 53 GNDPLL0 (power) "PLL GND - Ground. Dedicated pins. The sysCLOCK PLL has the DC ground connection made on the FPGA, so the external PLL ground connection (GNDPLL) must NOT be connected to the board’s ground", 54 VCCPLL0 (power) "PLL VCC - Power. Dedicated pins. The PLL requires a separate power and ground that is quiet and stable to reduce the output clock jitter of the PLL", 57 VCCIO_2 (power) "VCCIO - The power supply pins for I/O Bank 2. Dedicated pins. All VCCIOs located in the same bank are tied to the same supply.", 58 NC "No connect", 59 GND (power) "GND - Ground. Dedicated pins. It is recommended that all GNDs are tied together.", 69 GND (power) "GND - Ground. Dedicated pins. It is recommended that all GNDs are tied together.", 72 VCC_SPI (power) "SPI interface voltage supply input. Must have a valid voltage even if configuring from NVCM.", 77 NC "No connect", 86 GND (power) "GND - Ground. Dedicated pins. It is recommended that all GNDs are tied together.", 89 VCCIO_1 (power) "VCCIO - The power supply pins for I/O Bank 1. Dedicated pins. All VCCIOs located in the same bank are tied to the same supply.", 92 VCC (power) "VCC - The power supply pins for core logic. Dedicated pins. It is recommended that all VCCs are tied to the same supply.", 100 VCCIO_1 (power) "VCCIO - The power supply pins for I/O Bank 1. Dedicated pins. All VCCIOs located in the same bank are tied to the same supply.", 103 GND (power) "GND - Ground. Dedicated pins. It is recommended that all GNDs are tied together.", 108 VPP_2V5 (power) "VPP_2V5 NVCM programming and operating supply", 109 VPP_FAST (power) "Optional fast NVCM programming supply. VPP_FAST, used only for fast production programming, must be left floating or unconnected in applications, except CM36 and CM49 packages MUST have the VPP_FAST ball connected to VCCIO_0 (See Datasheet)", 111 VCC (power) "VCC - The power supply pins for core logic. Dedicated pins. It is recommended that all VCCs are tied to the same supply.", 123 VCCIO_0 (power) "VCCIO - The power supply pins for I/O Bank 0. Dedicated pins. All VCCIOs located in the same bank are tied to the same supply.", 126 VCCPLL1 (power) "PLL VCC - Power. Dedicated pins. The PLL requires a separate power and ground that is quiet and stable to reduce the output clock jitter of the PLL", 127 GNDPLL1 (power) "PLL GND - Ground. Dedicated pins. The sysCLOCK PLL has the DC ground connection made on the FPGA, so the external PLL ground connection (GNDPLL) must NOT be connected to the board’s ground", 131 VCCIO_0 (power) "VCCIO - The power supply pins for I/O Bank 0. Dedicated pins. All VCCIOs located in the same bank are tied to the same supply.", 132 GND (power) "GND - Ground. Dedicated pins. It is recommended that all GNDs are tied together.", 133 NC "No connect", 140 GND (power) "GND - Ground. Dedicated pins. It is recommended that all GNDs are tied together."
part A text: BANK 0
part B text: BANK 1
part C text: BANK 2
part D text: BANK 3

## Ice Comms Module
designator ICM?, comment Placement Outline for ICM-J1, J2, MH1, MH2
footprint Ice Comms Module
text: ICM Interface Guide and 3D Body; ICM-J1; (2); Keystone; 4883; ICM-J2; Samtec; SFM-115-02-S-D-A-K

## ICM
designator ICM MT, comment Ice Comms Module Placements
Ice Comms ModuleIce Comms Module Placements

## IDTQS3VH125
designator U?
QUAD ACTIVE LOW, HIGH BANDWIDTH SWITCH; Manufacturer: IDT, Integrated Device Technology Inc; Manufacturer Part Number: IDTQS3VH125QG8; Circuit: 1 x 4:1; Independent Circuits: 1; Voltage Supply Source: Single Supply; Voltage - Supply: 2.3 V ~ 3.6 V; Supplier 1: Digi-Key; Supplier Part Number 1: 800-1750-1-ND; RoHS: RoHS Compliant; Category: Integrated Circuits (ICs); Stock: 8083; Pricing: 1=1.05, 25=0.8252, 100=0.7425, 250=0.64624, 500=0.5775, 1000=0.45375 (USD); Packaging: Cut Tape (CT); Type: Bus Switch; Current - Output High, Low: -; Operating Temperature: -40°C ~ 85°C; Mounting Type: Surface Mount; Package / Case: 16-SSOP (0.154", 3.90mm Width); Supplier Device Package: 16-QSOP; ComponentLink1URL: http://www.idt.com/document/qs3vh125-datasheet; ComponentLink1Description: http://www.idt.com/document/qs3vh125-datasheet
footprint SOP64P600X175-16N (SOP, 16-Leads, Body 4.90x3.91mm, Pitch 0.64mm, IPC Medium Density)
part A pins: 2 ~{1OE}, 3 1A, 4 1Y
part B pins: 5 ~{2OE}, 6 2A, 7 2Y
part C pins: 10 3Y, 11 3A, 12 ~{3OE}
part D pins: 13 4Y, 14 4A, 15 ~{4OE}
part E pins: 1 NC, 8 GND, 9 NC, 16 Vcc

## Inductor
designator L?  value 10mH
PackageReference: 0402-A; PackageDescription: Chip Inductor
footprint 0402 (Chip Capacitor; Body 1.0 x 0.5 mm (LxW typ))
footprint INDC1608L (Chip Inductor, Body 1.6x0.8mm, IPC High Density)
footprint 2029 (Chip Inductor, Body 2.0x1.2mm, IPC High Density)
footprint 0603 (Chip Inductor, Body 0.6x0.3mm, IPC High Density)
footprint INDC3216 (Chip Inductor, Body 3.2x1.6mm, IPC High Density)
footprint INDC4532 (Chip Inductor, Body 4.5x3.2mm, IPC High Density)
simulation model INDUCTOR (Inductor)
signal-integrity model Inductor
footprint 0805 (SMT; Body 2.0 x 1.2 mm (LxW typ))
pins: 1, 2

## INDUCTOR 3.30UH 1.35A SMD
designator L?  value 3.3uH  Type: Toroidal  (hidden comment: INDUCTOR 3.30UH 1.35A SMD)
Manufacturer: Murata Power Solutions Inc; Manufacturer Part Number: 83332C; Inductance: 3.3µH; Current - Saturation: 1.79A; Tolerance: ±20%; Shielding: Unshielded; DC Resistance (DCR): 98 mOhm Max; Supplier 1: Digi-Key; Supplier Part Number 1: 811-2603-1-ND; RoHS: RoHS Compliant; Category: Inductors, Coils, Chokes; Pricing: 1=1.61, 10=1.435, 25=1.3652, 50=1.3126, 100=1.26, 250=1.155, 500=1.085, 1000=0.9975 (USD); Packaging: Cut Tape (CT); Current Rating: 1.35A; Material - Core: -; Q @ Freq: -; Frequency - Self Resonant: -; Operating Temperature: -40°C ~ 85°C; Package / Case: Non Standard; Size / Dimension: 0.307" L x 0.205" W x 0.071" H (7.80mm x 5.20mm x 1.80mm); Mounting Type: Surface Mount; Frequency - Test: -; ComponentLink1URL: http://www.murata-ps.com/data/magnetics/kmp_8300.pdf; ComponentLink1Description: http://www.murata-ps.com/data/magnetics/kmp_8300.pdf; Stock: 2200
simulation model INDUCTOR (Inductor)
signal-integrity model Inductor
footprint Murata_8300
pins: 1, 2

## INDUCTOR 4.70UH 1.10A SMD
designator L?  value 4.7uH  Type: Toroidal  (hidden comment: INDUCTOR 4.70UH 1.10A SMD)
Manufacturer: Murata Power Solutions Inc; Manufacturer Part Number: 83472C; Inductance: 4.7µH; Current Rating: 1.1A; Current - Saturation: 1.66A; Tolerance: ±20%; Shielding: Unshielded; DC Resistance (DCR): 130 mOhm Max; Supplier 1: Digi-Key; Supplier Part Number 1: 811-2604-1-ND; RoHS: RoHS Compliant; Category: Inductors, Coils, Chokes; Pricing: 1=1.61, 10=1.435, 25=1.3652, 50=1.3126, 100=1.26, 250=1.155, 500=1.085, 1000=0.9975 (USD); Packaging: Cut Tape (CT); Material - Core: -; Q @ Freq: -; Frequency - Self Resonant: -; Operating Temperature: -40°C ~ 85°C; Package / Case: Non Standard; Size / Dimension: 0.307" L x 0.205" W x 0.071" H (7.80mm x 5.20mm x 1.80mm); Mounting Type: Surface Mount; Frequency - Test: -; ComponentLink1URL: http://www.murata-ps.com/data/magnetics/kmp_8300.pdf; ComponentLink1Description: http://www.murata-ps.com/data/magnetics/kmp_8300.pdf; Stock: 1734
simulation model INDUCTOR (Inductor)
signal-integrity model Inductor
footprint Murata_8300
pins: 1, 2

## INDUCTOR 4.70UH 880mA SMD
designator L?  value 4.7uH  (hidden comment: INDUCTOR 4.70UH 880mA SMD)
Manufacturer: Murata Electronics North America; Manufacturer Part Number: LQH3NPN4R7MM0L; Type: Bobbin; Material - Core: Ferrite; Inductance: 4.7µH; Tolerance: ±20%; Current Rating: 1.25A; Shielding: Shielded; DC Resistance (DCR): 130 mOhm; Frequency - Self Resonant: 65MHz; Frequency - Test: 1MHz; Supplier 1: Digi-Key; Supplier Part Number 1: 490-6642-1-ND; RoHS: RoHS Compliant; Category: Inductors, Coils, Chokes; Stock: 6607; Pricing: 1=0.43, 10=0.387, 25=0.3436, 50=0.3006, 100=0.2792, 250=0.25772, 500=0.24482 (USD); Packaging: Cut Tape (CT); Current - Saturation: 880mA; Q @ Freq: -; Operating Temperature: -40°C ~ 85°C; Mounting Type: Surface Mount; Package / Case: Non Standard; Size / Dimension: 0.118" L x 0.118" W (3.00mm x 3.00mm); Height - Seated (Max): 0.059" (1.50mm); Supplier Device Package: -; ComponentLink1URL: http://search.murata.co.jp/Ceramy/image/img/PDF/ENG/L0075S0103LQH3NP_M0.pdf; ComponentLink1Description: http://search.murata.co.jp/Ceramy/image/img/PDF/ENG/L0075S0103LQH3NP_M0.pdf
simulation model INDUCTOR (Inductor)
signal-integrity model Inductor
footprint Murata_8300
footprint IND_1212 (Chip Inductor, Body 3.2x2.5mm, IPC Medium Density)
pins: 1, 2